# Altium schematic symbol library GRM21BR71H474KA88L.SchLib: 1 symbol
Pins are listed as number, name and electrical type; pins without a type are passive.

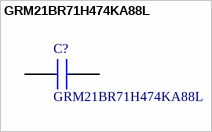
[diagram p0: symbol GRM21BR71H474KA88L]

## GRM21BR71H474KA88L
designator C?
Multilayer Ceramic Capacitors MLCC - SMD/SMT 0805 0.47uF 50volts X7R 10%; Manufacturer_Name: Murata Electronics; Geometry.Height: 1.45mm; Manufacturer_Part_Number: GRM21BR71H474KA88L; RS Part Number: 7236118P; RS Price/Stock: http://uk.rs-online.com/web/p/products/7236118P; Arrow Part Number: GRM21BR71H474KA88L; Arrow Price/Stock: https://www.arrow.com/en/products/grm21br71h474ka88l/murata-manufacturing; Datasheet Link: http://www.murata.com/~/media/webrenewal/support/library/catalog/products/capacitor/mlcc/c02e.pdf
footprint CAPC2012X145N
pins: 1, 2